# Altium schematic symbol library 热敏电阻schdoc.SCHLIB: 1 symbol
Pins are listed as number, name and electrical type; pins without a type are passive.

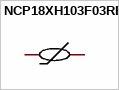
[diagram p0: symbol NCP18XH103F03RB]

## NCP18XH103F03RB
designator R??  (value not drawn)
Add into BOM: yes; Power: 100mW; Steady State Current (Max): 310uA; Symbol: NCP18XH103F03RB; Device: NCP18XH103F03RB; Supplier: LCSC; Manufacturer Part: NCP18XH103F03RB; Supplier Part: C13564; JLCPCB Part Class: Extended Part; Supplier Footprint: 0603; Convert to PCB: yes
footprint R0603
pins: 1, 2